# Altium footprint library pcb_lcee.PcbLib: 46 footprints (part 2 of 3)
Each footprint in its own frame and in the unit in brackets; x right, y up, seen from the top. Pads: shape width x height; smd on the part's side, far side on the other; paste and mask are expansions set on the pad; w line width, h text height; cw(c..) or ccw(c..) is an arc to the next point about the centre after c.
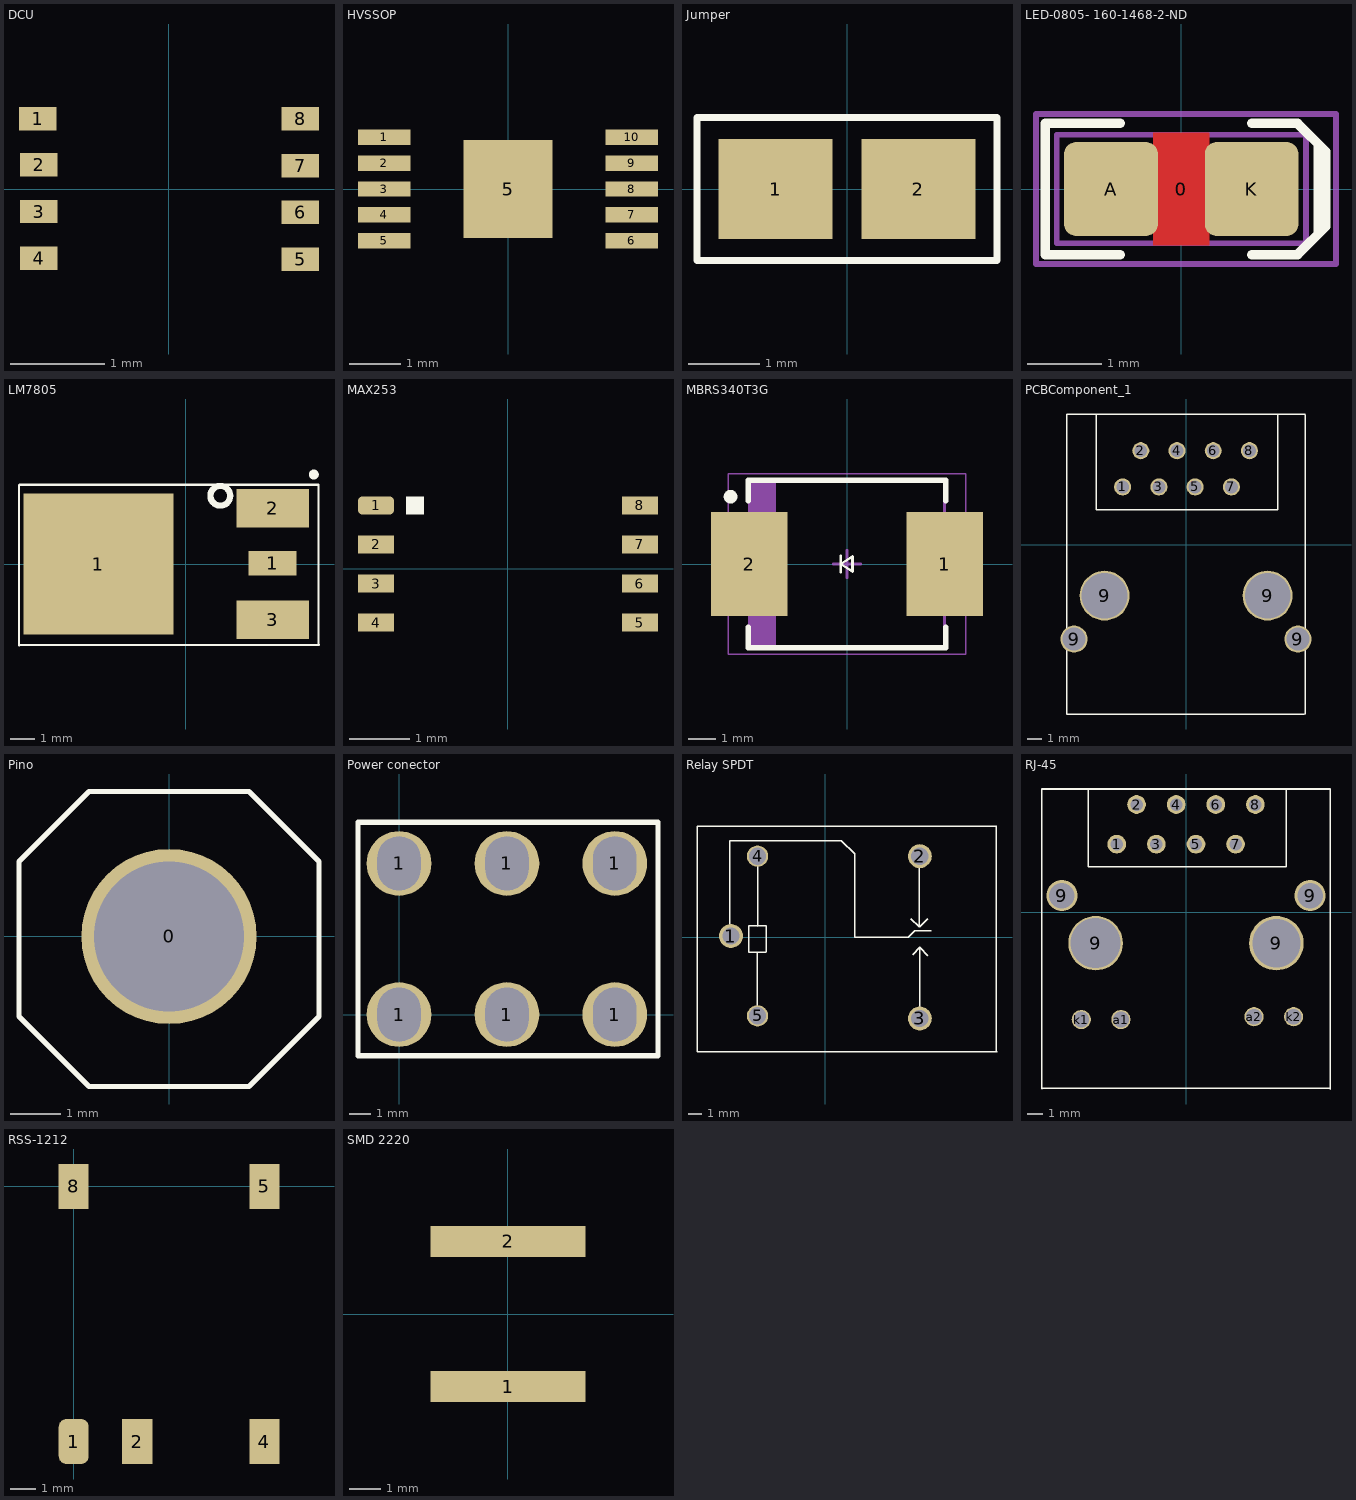
[diagram p1: the footprints below, top view; thin cyan lines are the x and y axes]

## DCU [mm]
pads (8):
  rect 0.4x0.25 smd: 1(-1.4,0.75) 2(-1.39,0.26) 3(-1.39,-0.24) 4(-1.39,-0.74) 5(1.4,-0.75) 6(1.4,-0.25) 7(1.4,0.25) 8(1.4,0.75)

## HVSSOP [mm]
pads (11):
  rect 1.02x0.3 smd mask+0.05: 1(-2.4,1) 2(-2.4,0.5) 3(-2.4,0) 4(-2.4,-0.5) 5(-2.4,-1) 6(2.4,-1) 7(2.4,-0.5) 8(2.4,0) 9(2.4,0.5) 10(2.4,1)
  rect 1.73x1.9 smd mask+0.05: 5(0,0)

## Jumper [mm]
pads (2):
  rect 1.6x1.397 smd: 1(-1,0) 2(1,0)
Top Overlay:
  lines w0.1: -2.1,-1 2.1,-1 2.1,1 -2.1,1 -2.1,-1

## LED-0805- 160-1468-2-ND [mil] "2V - 20mA"
pads (3):
  round 20 on Mech15: 0(0,0)
  rrect25% 50x50 smd: A(-37.5,0) K(37.5,0)
Top Layer:
  pour cut-out: -15,30 15,30 15,-30 -15,-30
Top Overlay:
  lines w5: -32.5,-35 -72.5,-35 -72.5,35 -32.5,35 ; 37.5,-35 62,-35 77,-20 77,20 62,35 37.5,35 ; 73,-24 73,24
Mechanical 13:
  lines w3: -66.5,-29 -66.5,29 66.5,29 66.5,-29 -66.5,-29
Mechanical 15:
  lines w3: -77.5,-40 -77.5,40 82.5,40 82.5,-40 -77.5,-40
3D body: height 3.94, standoff 0, extent -11.81,-15.75 11.81,15.75
3D body: height 3.94, standoff 0, extent -39.37,-24.61 39.37,24.61
3D body: height 11.81, standoff 3.94, extent -39.37,-24.61 39.37,24.61
3D body: height 31.5, standoff 11.81, extent -26.49,-24.61 28.65,24.6

## LM7805 [mm]
pads (4):
  rect 6.2x5.8 smd: 1(-3.6,0)
  rect 2x1 smd: 1(3.585,0.027)
  rect 3x1.6 smd: 2(3.6,2.3) 3(3.6,-2.3)
Top Overlay:
  circle w0.254: c5.291,3.691 r0.077
  circle w0.254: c1.43,2.816 r0.408
  lines w0.1: -6.879,-3.363 -6.879,3.039 -6.879,3.249 -6.86,3.268 5.484,3.268 5.485,3.267 5.485,-3.325 5.504,-3.344 -6.86,-3.344 -6.879,-3.363

## MAX253 [mm]
pads (8):
  rrect50% 0.6x0.3 smd: 1(-2.199,1.05)
  rect 0.6x0.3 smd: 2(-2.199,0.4) 3(-2.199,-0.25) 4(-2.199,-0.9) 5(2.2,-0.9) 6(2.2,-0.25) 7(2.2,0.4) 8(2.2,1.05)
Top Overlay:
  rectangle: -1.7,0.9 -1.4,1.2

## MBRS340T3G [mil] "Diodo Schottky"
height 94.88
pads (2):
  rect 110x150 smd: 1(140.49,0) 2(-140.49,0)
Top Overlay:
  circle w9.84: c-167.32,96.65 r4.92
  lines w3.94: -8.86,-11.81 -8.86,11.81 ; -8.86,0 7.87,-10.83 7.87,10.83 -8.86,0
  lines w7.87: -141.73,-90.75 -141.73,-120.08 141.73,-120.08 141.73,-90.75 ; -141.73,90.75 -141.73,120.08 141.73,120.08 141.73,90.75
Mechanical 13:
  rectangle: -139.96,-120.08 -102.31,120.08
  lines w3.94: -139.96,-120.08 139.96,-120.08 139.96,120.08 -139.96,120.08 -139.96,-120.08
Mechanical 15:
  lines w1.97: -170.28,-129.92 170.28,-129.92 170.28,129.92 -170.28,129.92 -170.28,-129.92
  lines w3.94: -19.69,0 19.68,0 ; 0,-19.68 0,19.68
3D body "DO-214AB-SMC.step": height 94.53, standoff -1.97, extent -153.54,-116.14 153.55,116.15

## Measure [mm]
via 0,0 diameter 1 hole 0.8

## PCBComponent_1 [mm]
pads (12):
  round 1.2 hole 0.9: 1(-4.44,4.065) 2(-3.17,6.605) 3(-1.9,4.065) 4(-0.63,6.605) 5(0.64,4.065) 6(1.91,6.605) 7(3.18,4.065) 8(4.45,6.605)
  round 1.9 hole 1.6: 9(-7.85,-6.605) 9(7.85,-6.605)
  round 3.5 hole 3.2: 9(-5.71,-3.555) 9(5.72,-3.555)
Top Overlay:
  lines w0.1: -6.281,9.179 -6.281,2.494 -6.266,2.478 6.402,2.478 6.44,2.516 6.44,9.172 ; 8.3,-11.855 -7.85,-11.855 -8.336,-11.855 -8.35,-11.841 -8.35,-11.355 -8.35,-9.655 -8.35,9.145 8.364,9.145 ; 8.35,-11.855 8.35,-6.605 8.35,9.133

## PCBComponent_1 - duplicate [mm]

## Pino [mm]
pads (1):
  round 3.5 hole 3 mask+0.05: 0(0,0)
Top Overlay:
  lines w0.1: -0.3,2.9 1.6,2.9 3,1.5 3,-1.6 ; 3,-1.5 3,-1.6 ; -3,-1.6 -3,-1.5 -3,-1.6 ; -3,-1.6 -1.6,-3 ; -3,-1.6 -3,1.5 ; -3,-1.6 -3,1.5 ; -3,-1.6 -1.6,-3 ; -3,1.5 -1.6,2.9 ; -3,1.5 -1.6,2.9 ; -1.6,-3 0,-3 ; -1.6,-3 0,-3 ; -1.6,2.9 -0.1,2.9 -1.6,2.9 ; 0,-3 1.6,-3 3,-1.6

## Power conector [mm] "Screw M4 and 30A"
pads (6):
  round 3 hole 2 slot 2.5 at 90 deg: 1(0,0) 1(0,7) 1(5,0) 1(5,7) 1(10,0) 1(10,7)
Top Overlay:
  lines w0.254: -1.9,-1.9 12,-1.9 12,8.9 -1.9,8.9 -1.9,-1.9

## Relay SPDT [mm]
pads (5):
  round 1.8 hole 1.3: 1(-7.1,0.1) 2(7.1,6.1) 3(7.1,-6.1)
  round 1.6 hole 1.3: 4(-5.1,6.1) 5(-5.1,-5.9)
Top Overlay:
  lines w0.1: -7.2,0.888 -7.2,7.209 -7.148,7.261 1.21,7.261 2.203,6.268 2.203,0 ; -5.126,0.874 -4.463,0.874 -4.463,-1.089 ; -5.116,-5.951 -5.116,-1.118 ; -5.1,6.1 -5.1,0.846 -5.127,0.874 -5.751,0.874 -5.751,-1.102 -5.739,-1.114 -4.438,-1.114 ; 6.435,1.412 7.062,0.785 ; 6.558,-1.3 7.1,-0.759 ; 7.062,6.009 7.062,0.785 ; 7.098,0.866 7.098,0.785 ; 7.1,-6.1 7.1,-0.759 ; 7.693,1.388 7.098,0.793 7.098,0.785 ; 7.708,-1.368 7.129,-0.788 7.129,-0.759 7.1,-0.759 ; 7.949,0.5 6.725,0.5 6.225,0 2.203,0 ; 12.85,-8.6 12.85,8.35 ; 12.893,8.35 10.6,8.35 -5.1,8.35 -9.65,8.35 -9.65,-8.6 12.9,-8.6 ; 2.203,0 2.203,0 ; 7.062,0.785 7.098,0.785

## RJ-45 [mm] "Connector"
pads (16):
  round 1.2 hole 0.8: 1(-4.44,4.355) 2(-3.17,6.895) 3(-1.9,4.355) 4(-0.63,6.895) 5(0.64,4.355) 6(1.91,6.895) 7(3.18,4.355) 8(4.45,6.895)
  round 2 hole 1.63: 9(-7.96,1.055) 9(7.96,1.055)
  round 3.5 hole 3.2: 9(-5.8,-1.995)
  round 3.5 hole 3.1: 9(5.8,-1.995)
  round 1.23 hole 1.02 mask+0.05: a1(-4.175,-6.895) a2(4.36,-6.715) k1(-6.715,-6.895) k2(6.9,-6.715)
Top Overlay:
  lines w0.1: -6.281,2.895 -6.281,7.89 ; -6.266,2.895 6.402,2.895 ; 6.44,2.895 6.44,7.89 ; -9.255,-11.34 -9.225,-11.31 -8,-11.31 8,-11.31 9.215,-11.31 9.255,-11.35 9.255,-4.605 9.255,7.89 8,7.89 -9.255,7.89 -9.255,-4.605 -9.255,-11.34

## RSS-1212 [mm] "fonte isolada"
pads (5):
  rrect50% 1.2x1.8 smd: 1(0,-10.2)
  rect 1.2x1.8 smd: 2(2.54,-10.2) 4(7.62,-10.2) 5(7.62,0) 8(0,0)

## SMD 2220 [mm]
pads (2):
  rect 5x1 smd: 1(0,-2.35) 2(0,2.35)